# EAGLE library part MCP617 (library 4534)
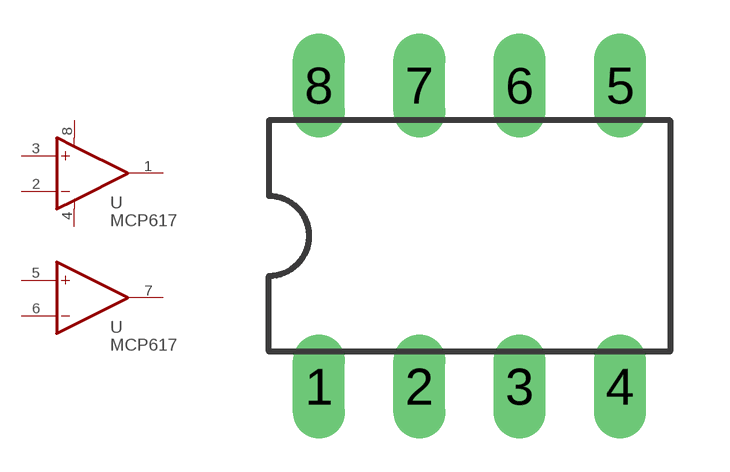
[diagram p18: symbol with the pads of DIL08; footprint DIL08]

Designator prefix -

## MCP617-I/P  [DIL08]
1  OUT  out
2  -IN  in
3  +IN  in
4  V-  pwr
5  +IN1  in
6  -IN1  in
7  OUT1  out
8  V+  pwr

## Footprint DIL08 (pad centres in mm)
Dual In Line Package
drill 0.813 long: 1 -3.81,-3.81; 2 -1.27,-3.81; 3 1.27,-3.81; 4 3.81,-3.81; 5 3.81,3.81; 6 1.27,3.81; 7 -1.27,3.81; 8 -3.81,3.81